# Altium footprint library Bornera.PcbLib: 4 footprints
Each footprint in its own frame and in the unit in brackets; x right, y up, seen from the top. Pads: shape width x height; smd on the part's side, far side on the other; paste and mask are expansions set on the pad; w line width, h text height; cw(c..) or ccw(c..) is an arc to the next point about the centre after c.
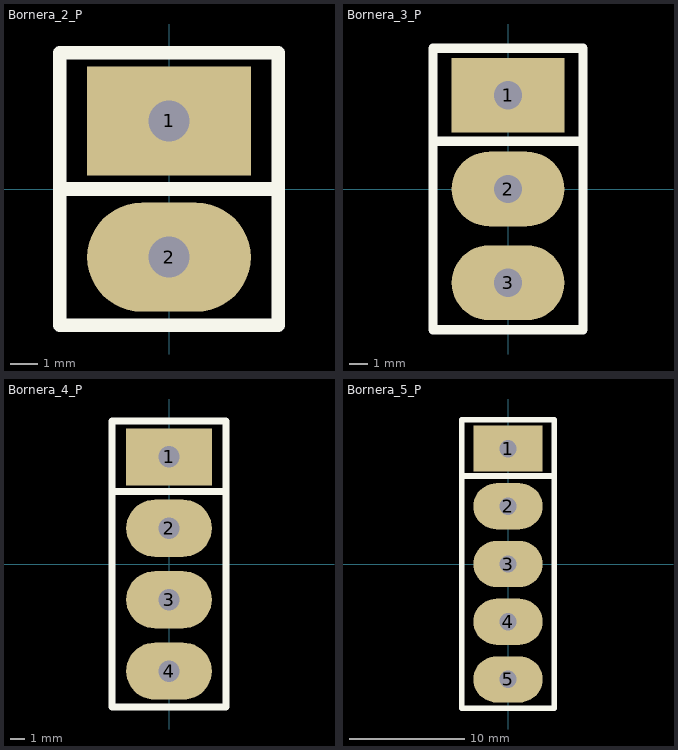
[diagram p0: the footprints below, top view; thin cyan lines are the x and y axes]

## Bornera_2_P [mm] "Footprint Bornera 2 Polos paso 5mm 8A DINKLE"
height 10
pads (2):
  rect 6x4 hole 1.5: 1(0,2.5)
  oval 6x4 hole 1.5: 2(0,-2.5)
Top Overlay:
  lines w0.5: -4,0 4,0 ; -4,-5 -4,5 4,5 4,-5 -4,-5

## Bornera_3_P [mm] "Footprint Bornera 3 Polos paso 5mm 8A DINKLE"
height 10
pads (3):
  rect 6x4 hole 1.5: 1(0,5)
  oval 6x4 hole 1.5: 2(0,0) 3(0,-5)
Top Overlay:
  lines w0.5: -4,2.54 4,2.54 ; -4,-7.5 -4,7.5 4,7.5 4,-7.5 -4,-7.5

## Bornera_4_P [mm] "Footprint Bornera 4 Polos paso 5mm 8A DINKLE"
height 10
pads (4):
  rect 6x4 hole 1.5: 1(0,7.5)
  oval 6x4 hole 1.5: 2(0,2.5) 3(0,-2.5) 4(0,-7.5)
Top Overlay:
  lines w0.5: -4,5.08 4,5.08 ; -4,-10 4,-10 4,10 -4,10 -4,-10

## Bornera_5_P [mm] "Footprint Bornera 5 Polos paso 5mm 8A DINKLE"
height 10
pads (5):
  rect 6x4 hole 1.5: 1(0,10)
  oval 6x4 hole 1.5: 2(0,5) 3(0,0) 4(0,-5) 5(0,-10)
Top Overlay:
  lines w0.5: -4,7.62 4,7.62 ; -4,-12.5 -4,12.5 4,12.5 4,-12.5 -4,-12.5